# EAGLE library part ADS1299IPAGR (library ADS1299IPAGR)
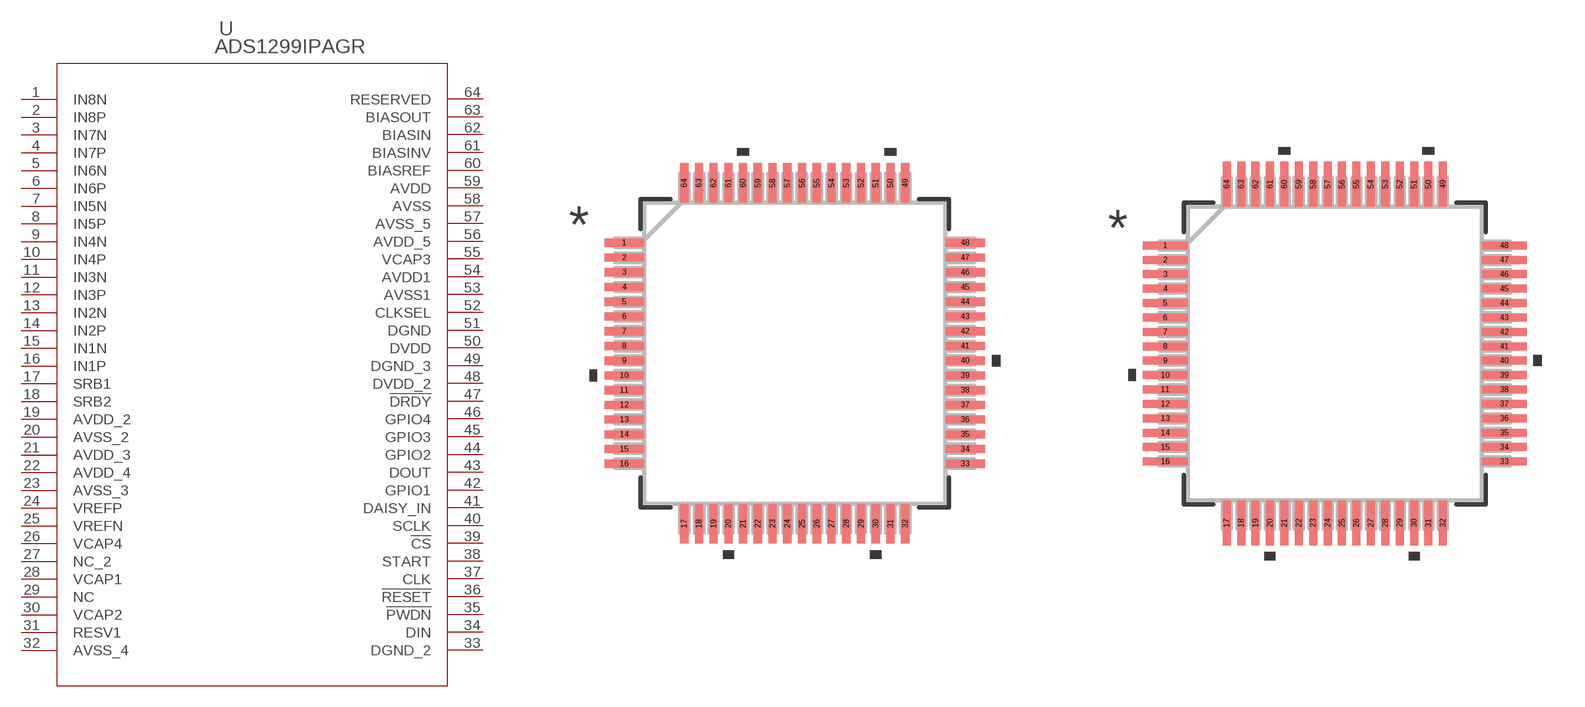
[diagram p0: symbol with the pads of PAG64_TEX; footprints PAG64_TEX, PAG64_TEX-M]

Designator prefix U

## ADS1299IPAGR (BUILT_BY: EMA_UL_Team; MANUFACTURER_PART_NUMBER: ADS1299IPAGR; SOURCELIBRARY: TI_2016-05-20; VENDOR: Texas Instruments)  [PAG64_TEX]
1  IN8N  in
2  IN8P  in
3  IN7N  in
4  IN7P  in
5  IN6N  in
6  IN6P  in
7  IN5N  in
8  IN5P  in
9  IN4N  in
10  IN4P  in
11  IN3N  in
12  IN3P  in
13  IN2N  in
14  IN2P  in
15  IN1N  in
16  IN1P  in
17  SRB1
18  SRB2
19  AVDD_2  pwr
20  AVSS_2  pwr
21  AVDD_3  pwr
22  AVDD_4  pwr
23  AVSS_3  pwr
24  VREFP
25  VREFN  in
26  VCAP4  out
27  NC_2  nc
28  VCAP1  pas
29  NC  nc
30  VCAP2  pas
31  RESV1  in
32  AVSS_4  pwr
33  DGND_2  pwr
34  DIN  in
35  !PWDN  pwr
36  !RESET  in
37  CLK  in
38  START  in
39  !CS  in
40  SCLK  in
41  DAISY_IN  in
42  GPIO1
43  DOUT  out
44  GPIO2
45  GPIO3
46  GPIO4
47  !DRDY  out
48  DVDD_2  pwr
49  DGND_3  pwr
50  DVDD  pwr
51  DGND  pwr
52  CLKSEL  in
53  AVSS1  pwr
54  AVDD1  pwr
55  VCAP3  pas
56  AVDD_5  pwr
57  AVSS_5  pwr
58  AVSS  pwr
59  AVDD  pwr
60  BIASREF  in
61  BIASINV
62  BIASIN  in
63  BIASOUT  out
64  RESERVED  out

## ADS1299IPAGRPAG64_TEX-M (BUILT_BY: EMA_UL_Team; MANUFACTURER_PART_NUMBER: ADS1299IPAGR; SOURCELIBRARY: TI_2016-05-20; VENDOR: Texas Instruments)  [PAG64_TEX-M]
Pads as for PAG64_TEX

## ADS1299IPAGRPAG64_TEX-L (BUILT_BY: EMA_UL_Team; MANUFACTURER_PART_NUMBER: ADS1299IPAGR; SOURCELIBRARY: TI_2016-05-20; VENDOR: Texas Instruments)  [PAG64_TEX-L]
Pads as for PAG64_TEX

## Footprint PAG64_TEX (pad centres in mm)
smd 1.346 x 0.279: 1 -5.779,3.75; 2 -5.779,3.25; 3 -5.779,2.75; 4 -5.779,2.25; 5 -5.779,1.75; 6 -5.779,1.25; 7 -5.779,0.75; 8 -5.779,0.25; 9 -5.779,-0.25; 10 -5.779,-0.75; 11 -5.779,-1.25; 12 -5.779,-1.75; 13 -5.779,-2.25; 14 -5.779,-2.75; 15 -5.779,-3.25; 16 -5.779,-3.75; 33 5.779,-3.75; 34 5.779,-3.25; 35 5.779,-2.75; 36 5.779,-2.25; 37 5.779,-1.75; 38 5.779,-1.25; 39 5.779,-0.75; 40 5.779,-0.25; 41 5.779,0.25; 42 5.779,0.75; 43 5.779,1.25; 44 5.779,1.75; 45 5.779,2.25; 46 5.779,2.75; 47 5.779,3.25; 48 5.779,3.75
smd 0.279 x 1.346: 17 -3.75,-5.779; 18 -3.25,-5.779; 19 -2.75,-5.779; 20 -2.25,-5.779; 21 -1.75,-5.779; 22 -1.25,-5.779; 23 -0.75,-5.779; 24 -0.25,-5.779; 25 0.25,-5.779; 26 0.75,-5.779; 27 1.25,-5.779; 28 1.75,-5.779; 29 2.25,-5.779; 30 2.75,-5.779; 31 3.25,-5.779; 32 3.75,-5.779; 49 3.75,5.779; 50 3.25,5.779; 51 2.75,5.779; 52 2.25,5.779; 53 1.75,5.779; 54 1.25,5.779; 55 0.75,5.779; 56 0.25,5.779; 57 -0.25,5.779; 58 -0.75,5.779; 59 -1.25,5.779; 60 -1.75,5.779; 61 -2.25,5.779; 62 -2.75,5.779; 63 -3.25,5.779; 64 -3.75,5.779

## Footprint PAG64_TEX-M (pad centres in mm)
smd 1.549 x 0.279: 1 -5.88,3.75; 2 -5.88,3.25; 3 -5.88,2.75; 4 -5.88,2.25; 5 -5.88,1.75; 6 -5.88,1.25; 7 -5.88,0.75; 8 -5.88,0.25; 9 -5.88,-0.25; 10 -5.88,-0.75; 11 -5.88,-1.25; 12 -5.88,-1.75; 13 -5.88,-2.25; 14 -5.88,-2.75; 15 -5.88,-3.25; 16 -5.88,-3.75; 33 5.88,-3.75; 34 5.88,-3.25; 35 5.88,-2.75; 36 5.88,-2.25; 37 5.88,-1.75; 38 5.88,-1.25; 39 5.88,-0.75; 40 5.88,-0.25; 41 5.88,0.25; 42 5.88,0.75; 43 5.88,1.25; 44 5.88,1.75; 45 5.88,2.25; 46 5.88,2.75; 47 5.88,3.25; 48 5.88,3.75
smd 0.279 x 1.549: 17 -3.75,-5.88; 18 -3.25,-5.88; 19 -2.75,-5.88; 20 -2.25,-5.88; 21 -1.75,-5.88; 22 -1.25,-5.88; 23 -0.75,-5.88; 24 -0.25,-5.88; 25 0.25,-5.88; 26 0.75,-5.88; 27 1.25,-5.88; 28 1.75,-5.88; 29 2.25,-5.88; 30 2.75,-5.88; 31 3.25,-5.88; 32 3.75,-5.88; 49 3.75,5.88; 50 3.25,5.88; 51 2.75,5.88; 52 2.25,5.88; 53 1.75,5.88; 54 1.25,5.88; 55 0.75,5.88; 56 0.25,5.88; 57 -0.25,5.88; 58 -0.75,5.88; 59 -1.25,5.88; 60 -1.75,5.88; 61 -2.25,5.88; 62 -2.75,5.88; 63 -3.25,5.88; 64 -3.75,5.88

## Footprint PAG64_TEX-L (pad centres in mm)
smd 1.143 x 0.229: 1 -5.677,3.75; 2 -5.677,3.25; 3 -5.677,2.75; 4 -5.677,2.25; 5 -5.677,1.75; 6 -5.677,1.25; 7 -5.677,0.75; 8 -5.677,0.25; 9 -5.677,-0.25; 10 -5.677,-0.75; 11 -5.677,-1.25; 12 -5.677,-1.75; 13 -5.677,-2.25; 14 -5.677,-2.75; 15 -5.677,-3.25; 16 -5.677,-3.75; 33 5.677,-3.75; 34 5.677,-3.25; 35 5.677,-2.75; 36 5.677,-2.25; 37 5.677,-1.75; 38 5.677,-1.25; 39 5.677,-0.75; 40 5.677,-0.25; 41 5.677,0.25; 42 5.677,0.75; 43 5.677,1.25; 44 5.677,1.75; 45 5.677,2.25; 46 5.677,2.75; 47 5.677,3.25; 48 5.677,3.75
smd 0.229 x 1.143: 17 -3.75,-5.677; 18 -3.25,-5.677; 19 -2.75,-5.677; 20 -2.25,-5.677; 21 -1.75,-5.677; 22 -1.25,-5.677; 23 -0.75,-5.677; 24 -0.25,-5.677; 25 0.25,-5.677; 26 0.75,-5.677; 27 1.25,-5.677; 28 1.75,-5.677; 29 2.25,-5.677; 30 2.75,-5.677; 31 3.25,-5.677; 32 3.75,-5.677; 49 3.75,5.677; 50 3.25,5.677; 51 2.75,5.677; 52 2.25,5.677; 53 1.75,5.677; 54 1.25,5.677; 55 0.75,5.677; 56 0.25,5.677; 57 -0.25,5.677; 58 -0.75,5.677; 59 -1.25,5.677; 60 -1.75,5.677; 61 -2.25,5.677; 62 -2.75,5.677; 63 -3.25,5.677; 64 -3.75,5.677